# Altium schematic symbol library ThaiEasySymbol_090120_AD2006.SchLib: 32 symbols
Pins are listed as number, name and electrical type; pins without a type are passive.

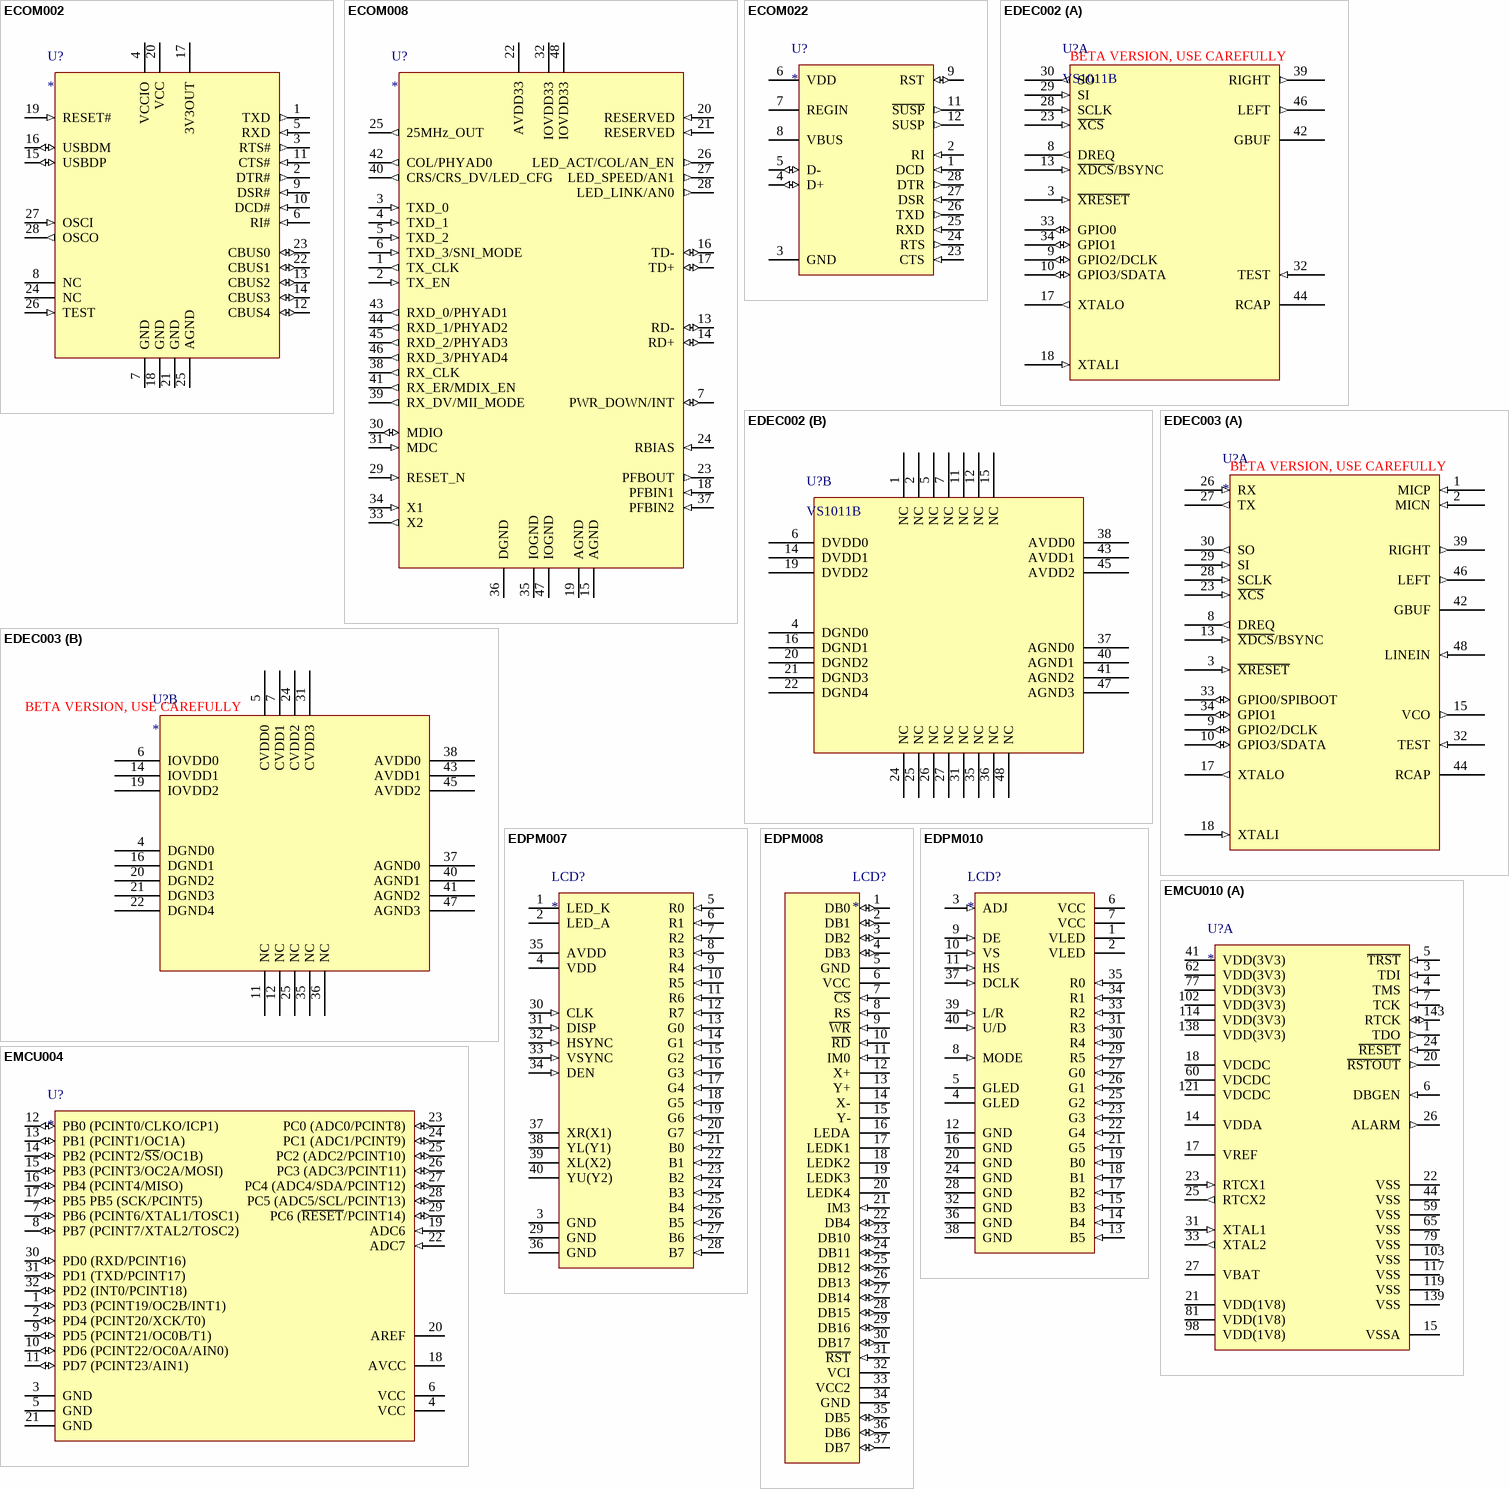
[diagram p0: symbols ECOM002 to EMCU010]

## ECOM002
designator U?
FT232RL -- USB UART IC
pins: 1 TXD (out), 2 DTR# (out), 3 RTS# (out), 4 VCCIO (power), 5 RXD (in), 6 RI# (in), 7 GND (power), 8 NC, 9 DSR# (in), 10 DCD# (in), 11 CTS# (in), 12 CBUS4 (io), 13 CBUS2 (io), 14 CBUS3 (io), 15 USBDP (io), 16 USBDM (io), 17 3V3OUT (power), 18 GND (power), 19 RESET# (in), 20 VCC (power), 21 GND (power), 22 CBUS1 (io), 23 CBUS0 (io), 24 NC, 25 AGND (power), 26 TEST (in), 27 OSCI (in), 28 OSCO (out)

## ECOM008
designator U?
DP83848CVV -- Single Port 10/100 Mb/s Ethernet Physical Layer Transceiver
footprint VBH48A (QFP; 48 Leads; Body 7 x 7 mm; Pitch 0.5 mm)
pins: 1 TX_CLK (out), 2 TX_EN (in), 3 TXD_0 (in), 4 TXD_1 (in), 5 TXD_2 (in), 6 TXD_3/SNI_MODE (in), 7 PWR_DOWN/INT (io), 13 RD- (io), 14 RD+ (io), 15 AGND (power), 16 TD- (io), 17 TD+ (io), 18 PFBIN1 (in), 19 AGND (power), 20 RESERVED (in), 21 RESERVED (in), 22 AVDD33 (power), 23 PFBOUT (out), 24 RBIAS (in), 25 25MHz_OUT (out), 26 LED_ACT/COL/AN_EN (out), 27 LED_SPEED/AN1 (out), 28 LED_LINK/AN0 (out), 29 RESET_N (in), 30 MDIO (io), 31 MDC (in), 32 IOVDD33 (power), 33 X2 (out), 34 X1 (in), 35 IOGND (power), 36 DGND (power), 37 PFBIN2 (in), 38 RX_CLK (out), 39 RX_DV/MII_MODE (out), 40 CRS/CRS_DV/LED_CFG (out), 41 RX_ER/MDIX_EN (out), 42 COL/PHYAD0 (out), 43 RXD_0/PHYAD1 (out), 44 RXD_1/PHYAD2 (out), 45 RXD_2/PHYAD3 (out), 46 RXD_3/PHYAD4 (out), 47 IOGND (power), 48 IOVDD33 (power)

## ECOM022
designator U?
CP2102 -- SINGLE-CHIP USB TO UART BRIDGE
footprint Model Name (Footprint not found)
footprint QFN5X5-28 (Quad Flat No Lead, Plastic; 28 Terminals; Body 5 x 5 mm; Pitch 0.5 mm)
pins: 1 DCD (in), 2 RI (in), 3 GND (power), 4 D+ (io), 5 D- (io), 6 VDD (power), 7 REGIN (power), 8 VBUS (power), 9 RST (io), 11 ~{SUSP} (out), 12 SUSP (out), 23 CTS (in), 24 RTS (out), 25 RXD (in), 26 TXD (out), 27 DSR (in), 28 DTR (out)

## EDEC002
designator U?, comment VS1011B
VS1011B -- IC MP3 AUDIO CODEC LQFP48
part A pins: 3 ~{XRESET} (in), 8 DREQ (out), 9 GPIO2/DCLK (io), 10 GPIO3/SDATA (io), 13 ~{XDCS}/BSYNC (in), 17 XTALO (out), 18 XTALI (in), 23 ~{XCS} (in), 28 SCLK (in), 29 SI (in), 30 SO (out), 32 TEST (in), 33 GPIO0 (io), 34 GPIO1 (io), 39 RIGHT (out), 42 GBUF (power), 44 RCAP, 46 LEFT (out)
part B pins: 1 NC, 2 NC, 4 DGND0 (power), 5 NC, 6 DVDD0 (power), 7 NC, 11 NC, 12 NC, 14 DVDD1 (power), 15 NC, 16 DGND1 (power), 19 DVDD2 (power), 20 DGND2 (power), 21 DGND3 (power), 22 DGND4 (power), 24 NC, 25 NC, 26 NC, 27 NC, 31 NC, 35 NC, 36 NC, 37 AGND0 (power), 38 AVDD0 (power), 40 AGND1 (power), 41 AGND2 (power), 43 AVDD1 (power), 45 AVDD2 (power), 47 AGND3 (power), 48 NC
part A text: BETA VERSION, USE CAREFULLY

## EDEC003
designator U?
VS1003B -- IC MP3/WMA AUDIO CODEC
part A pins: 1 MICP (in), 2 MICN (in), 3 ~{XRESET} (in), 8 DREQ (out), 9 GPIO2/DCLK (io), 10 GPIO3/SDATA (io), 13 ~{XDCS}/BSYNC (in), 15 VCO (out), 17 XTALO (out), 18 XTALI (in), 23 ~{XCS} (in), 26 RX (in), 27 TX (out), 28 SCLK (in), 29 SI (in), 30 SO (out), 32 TEST (in), 33 GPIO0/SPIBOOT (io), 34 GPIO1 (io), 39 RIGHT (out), 42 GBUF (power), 44 RCAP, 46 LEFT (out), 48 LINEIN (in)
part B pins: 4 DGND0 (power), 5 CVDD0 (power), 6 IOVDD0 (power), 7 CVDD1 (power), 11 NC, 12 NC, 14 IOVDD1 (power), 16 DGND1 (power), 19 IOVDD2 (power), 20 DGND2 (power), 21 DGND3 (power), 22 DGND4 (power), 24 CVDD2 (power), 25 NC, 31 CVDD3 (power), 35 NC, 36 NC, 37 AGND0 (power), 38 AVDD0 (power), 40 AGND1 (power), 41 AGND2 (power), 43 AVDD1 (power), 45 AVDD2 (power), 47 AGND3 (power)
part A text: BETA VERSION, USE CAREFULLY
part B text: BETA VERSION, USE CAREFULLY

## EDPM007
designator LCD?
KD43G1-480272-A1 -- 4.3" 24-bit TFT LCD with touch screen
pins: 1 LED_K, 2 LED_A, 3 GND (power), 4 VDD (power), 5 R0 (in), 6 R1 (in), 7 R2 (in), 8 R3 (in), 9 R4 (in), 10 R5 (in), 11 R6 (in), 12 R7 (in), 13 G0 (in), 14 G1 (in), 15 G2 (in), 16 G3 (in), 17 G4 (in), 18 G5 (in), 19 G6 (in), 20 G7 (in), 21 B0 (in), 22 B1 (in), 23 B2 (in), 24 B3 (in), 25 B4 (in), 26 B5 (in), 27 B6 (in), 28 B7 (in), 29 GND (power), 30 CLK (in), 31 DISP (in), 32 HSYNC (in), 33 VSYNC (in), 34 DEN (in), 35 AVDD (power), 36 GND (power), 37 XR(X1), 38 YL(Y1), 39 XL(X2), 40 YU(Y2)

## EDPM008
designator LCD?
ELT240320TP -- 2.8" Touch Screen TFT LCD 240x320 Dots
footprint EDPM008 (ELT240320TP -- 2.8" Touch Screen TFT LCD 240x320 Dots)
pins: 1 DB0 (io), 2 DB1 (io), 3 DB2 (io), 4 DB3 (io), 5 GND (power), 6 VCC (power), 7 ~{CS} (in), 8 RS (in), 9 ~{WR} (in), 10 ~{RD} (in), 11 IM0 (in), 12 X+, 13 Y+, 14 X-, 15 Y-, 16 LEDA, 17 LEDK1, 18 LEDK2, 19 LEDK3, 20 LEDK4, 21 IM3 (in), 22 DB4 (io), 23 DB10 (io), 24 DB11 (io), 25 DB12 (io), 26 DB13 (io), 27 DB14 (io), 28 DB15 (io), 29 DB16 (io), 30 DB17 (io), 31 ~{RST} (in), 32 VCI (power), 33 VCC2 (power), 34 GND (power), 35 DB5 (io), 36 DB6 (io), 37 DB7 (io)

## EDPM010
designator LCD?
ELT800480TP
pins: 1 VLED (power), 2 VLED (power), 3 ADJ (in), 4 GLED (power), 5 GLED (power), 6 VCC (power), 7 VCC (power), 8 MODE (in), 9 DE (in), 10 VS (in), 11 HS (in), 12 GND (power), 13 B5 (in), 14 B4 (in), 15 B3 (in), 16 GND (power), 17 B2 (in), 18 B1 (in), 19 B0 (in), 20 GND (power), 21 G5 (in), 22 G4 (in), 23 G3 (in), 24 GND (power), 25 G2 (in), 26 G1 (in), 27 G0 (in), 28 GND (power), 29 R5 (in), 30 R4 (in), 31 R3 (in), 32 GND (power), 33 R2 (in), 34 R1 (in), 35 R0 (in), 36 GND (power), 37 DCLK (in), 38 GND (power), 39 L/R (in), 40 U/D (in)

## EMCU004
designator U?
ATMEGA88 -- 8-bit Microcontroller with 8K Bytes In-System Programmable Flash
footprint 32A (QFP; 32 Leads; Body 7 x 7 mm; Pitch 0.8 mm)
pins: 1 PD3 (PCINT19/OC2B/INT1) (io), 2 PD4 (PCINT20/XCK/T0) (io), 3 GND (power), 4 VCC (power), 5 GND (power), 6 VCC (power), 7 PB6 (PCINT6/XTAL1/TOSC1) (io), 8 PB7 (PCINT7/XTAL2/TOSC2) (io), 9 PD5 (PCINT21/OC0B/T1) (io), 10 PD6 (PCINT22/OC0A/AIN0) (io), 11 PD7 (PCINT23/AIN1) (io), 12 PB0 (PCINT0/CLKO/ICP1) (io), 13 PB1 (PCINT1/OC1A) (io), 14 PB2 (PCINT2/~{SS}/OC1B) (io), 15 PB3 (PCINT3/OC2A/MOSI) (io), 16 PB4 (PCINT4/MISO) (io), 17 PB5 PB5 (SCK/PCINT5) (io), 18 AVCC (power), 19 ADC6 (in), 20 AREF (power), 21 GND (power), 22 ADC7 (in), 23 PC0 (ADC0/PCINT8) (io), 24 PC1 (ADC1/PCINT9) (io), 25 PC2 (ADC2/PCINT10) (io), 26 PC3 (ADC3/PCINT11) (io), 27 PC4 (ADC4/SDA/PCINT12) (io), 28 PC5 (ADC5/SCL/PCINT13) (io), 29 PC6 (~{RESET}/PCINT14) (io), 30 PD0 (RXD/PCINT16) (io), 31 PD1 (TXD/PCINT17) (io), 32 PD2 (INT0/PCINT18) (io)

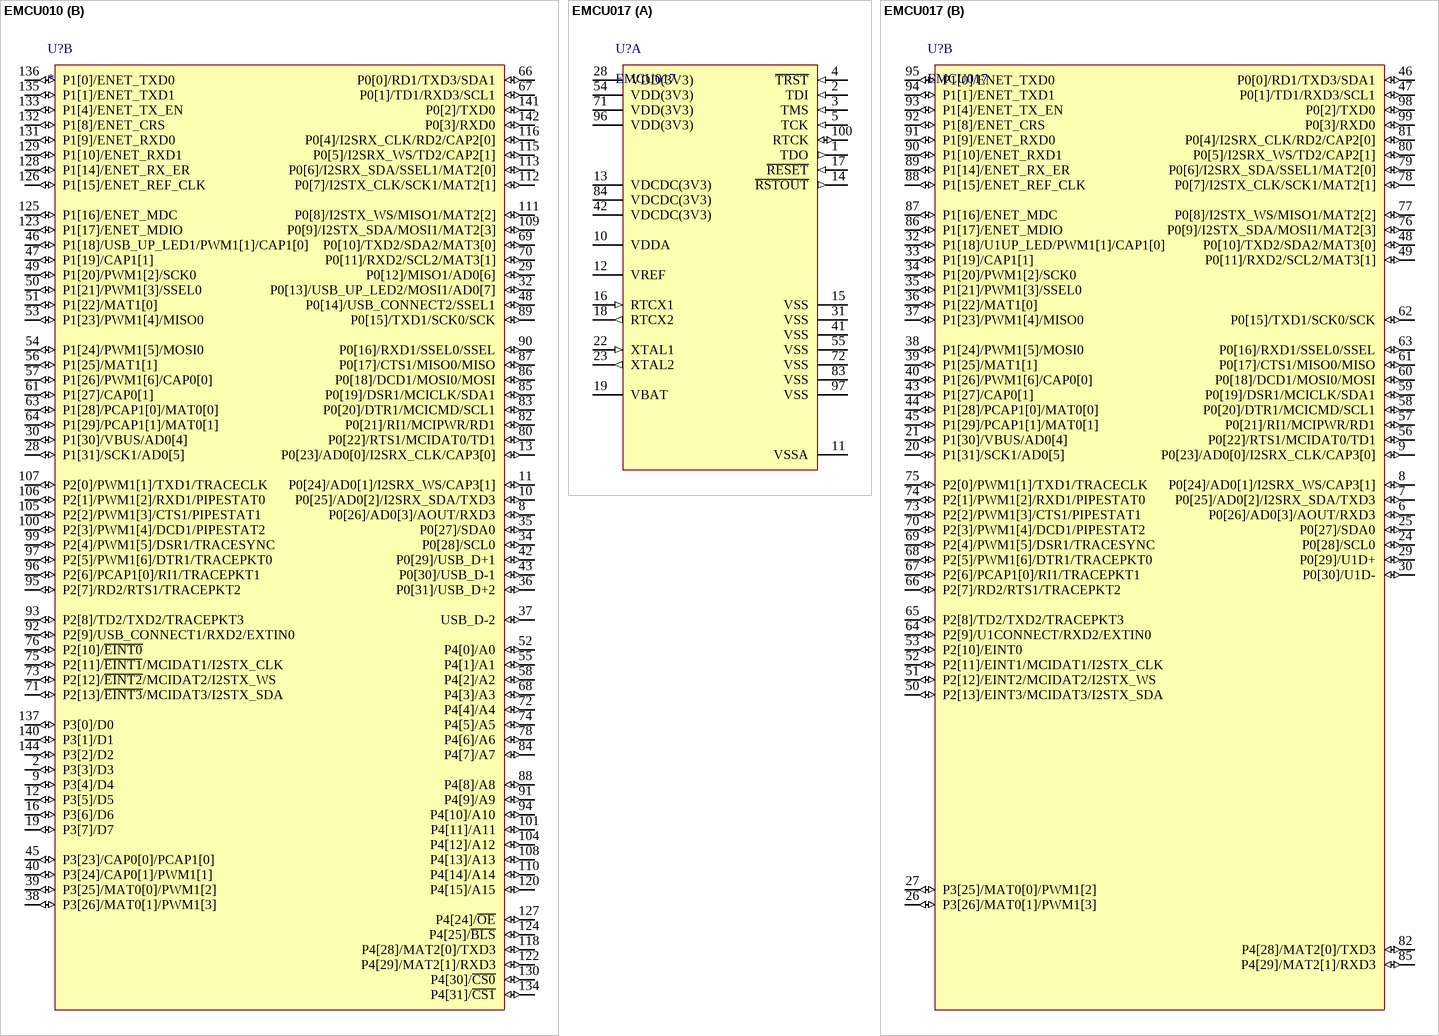
[diagram p1: symbols EMCU010 to EMCU017]

## EMCU010
designator U?
LPC2378FBD144 -- Single-chip 16-bit/32-bit microcontrollers; 512 kB flash with  ISP/IAP, Ethernet, USB 2.0, CAN, and 10-bit ADC/DAC
footprint 144L1 (QFP; 144 Leads; Body 20 x 20 mm; Pitch 0.5 mm)
part A pins: 1 TDO (out), 3 TDI (in), 4 TMS (in), 5 ~{TRST} (in), 6 DBGEN (in), 7 TCK (in), 14 VDDA (power), 15 VSSA (power), 17 VREF (power), 18 VDCDC (power), 20 ~{RSTOUT} (out), 21 VDD(1V8) (power), 22 VSS (power), 23 RTCX1 (in), 24 ~{RESET} (in), 25 RTCX2 (out), 26 ALARM (out), 27 VBAT (power), 31 XTAL1 (in), 33 XTAL2 (out), 41 VDD(3V3) (power), 44 VSS (power), 59 VSS (power), 60 VDCDC (power), 62 VDD(3V3) (power), 65 VSS (power), 77 VDD(3V3) (power), 79 VSS (power), 81 VDD(1V8) (power), 98 VDD(1V8) (power), 102 VDD(3V3) (power), 103 VSS (power), 114 VDD(3V3) (power), 117 VSS (power), 119 VSS (power), 121 VDCDC (power), 138 VDD(3V3) (power), 139 VSS (power), 143 RTCK (io)
part B pins: 2 P3[3]/D3 (io), 8 P0[26]/AD0[3]/AOUT/RXD3 (io), 9 P3[4]/D4 (io), 10 P0[25]/AD0[2]/I2SRX_SDA/TXD3 (io), 11 P0[24]/AD0[1]/I2SRX_WS/CAP3[1] (io), 12 P3[5]/D5 (io), 13 P0[23]/AD0[0]/I2SRX_CLK/CAP3[0] (io), 16 P3[6]/D6 (io), 19 P3[7]/D7 (io), 28 P1[31]/SCK1/AD0[5] (io), 29 P0[12]/MISO1/AD0[6] (io), 30 P1[30]/VBUS/AD0[4] (io), 32 P0[13]/USB_UP_LED2/MOSI1/AD0[7] (io), 34 P0[28]/SCL0 (io), 35 P0[27]/SDA0 (io), 36 P0[31]/USB_D+2 (io), 37 USB_D-2 (io), 38 P3[26]/MAT0[1]/PWM1[3] (io), 39 P3[25]/MAT0[0]/PWM1[2] (io), 40 P3[24]/CAP0[1]/PWM1[1] (io), 42 P0[29]/USB_D+1 (io), 43 P0[30]/USB_D-1 (io), 45 P3[23]/CAP0[0]/PCAP1[0] (io), 46 P1[18]/USB_UP_LED1/PWM1[1]/CAP1[0] (io), 47 P1[19]/CAP1[1] (io), 48 P0[14]/USB_CONNECT2/SSEL1 (io), 49 P1[20]/PWM1[2]/SCK0 (io), 50 P1[21]/PWM1[3]/SSEL0 (io), 51 P1[22]/MAT1[0] (io), 52 P4[0]/A0 (io), 53 P1[23]/PWM1[4]/MISO0 (io), 54 P1[24]/PWM1[5]/MOSI0 (io), 55 P4[1]/A1 (io), 56 P1[25]/MAT1[1] (io), 57 P1[26]/PWM1[6]/CAP0[0] (io), 58 P4[2]/A2 (io), 61 P1[27]/CAP0[1] (io), 63 P1[28]/PCAP1[0]/MAT0[0] (io), 64 P1[29]/PCAP1[1]/MAT0[1] (io), 66 P0[0]/RD1/TXD3/SDA1 (io), 67 P0[1]/TD1/RXD3/SCL1 (io), 68 P4[3]/A3 (io), 69 P0[10]/TXD2/SDA2/MAT3[0] (io), 70 P0[11]/RXD2/SCL2/MAT3[1] (io), 71 P2[13]/~{EINT3}/MCIDAT3/I2STX_SDA (io), 72 P4[4]/A4 (io), 73 P2[12]/~{EINT2}/MCIDAT2/I2STX_WS (io), 74 P4[5]/A5 (io), 75 P2[11]/~{EINT1}/MCIDAT1/I2STX_CLK (io), 76 P2[10]/~{EINT0} (io), 78 P4[6]/A6 (io), 80 P0[22]/RTS1/MCIDAT0/TD1 (io), 82 P0[21]/RI1/MCIPWR/RD1 (io), 83 P0[20]/DTR1/MCICMD/SCL1 (io), 84 P4[7]/A7 (io), 85 P0[19]/DSR1/MCICLK/SDA1 (io), 86 P0[18]/DCD1/MOSI0/MOSI (io), 87 P0[17]/CTS1/MISO0/MISO (io), 88 P4[8]/A8 (io), 89 P0[15]/TXD1/SCK0/SCK (io), 90 P0[16]/RXD1/SSEL0/SSEL (io), 91 P4[9]/A9 (io), 92 P2[9]/USB_CONNECT1/RXD2/EXTIN0 (io), 93 P2[8]/TD2/TXD2/TRACEPKT3 (io), 94 P4[10]/A10 (io), 95 P2[7]/RD2/RTS1/TRACEPKT2 (io), 96 P2[6]/PCAP1[0]/RI1/TRACEPKT1 (io), 97 P2[5]/PWM1[6]/DTR1/TRACEPKT0 (io), 99 P2[4]/PWM1[5]/DSR1/TRACESYNC (io), 100 P2[3]/PWM1[4]/DCD1/PIPESTAT2 (io), 101 P4[11]/A11 (io), 104 P4[12]/A12 (io), 105 P2[2]/PWM1[3]/CTS1/PIPESTAT1 (io), 106 P2[1]/PWM1[2]/RXD1/PIPESTAT0 (io), 107 P2[0]/PWM1[1]/TXD1/TRACECLK (io), 108 P4[13]/A13 (io), 109 P0[9]/I2STX_SDA/MOSI1/MAT2[3] (io), 110 P4[14]/A14 (io), 111 P0[8]/I2STX_WS/MISO1/MAT2[2] (io), 112 P0[7]/I2STX_CLK/SCK1/MAT2[1] (io), 113 P0[6]/I2SRX_SDA/SSEL1/MAT2[0] (io), 115 P0[5]/I2SRX_WS/TD2/CAP2[1] (io), 116 P0[4]/I2SRX_CLK/RD2/CAP2[0] (io), 118 P4[28]/MAT2[0]/TXD3 (io), 120 P4[15]/A15 (io), 122 P4[29]/MAT2[1]/RXD3 (io), 123 P1[17]/ENET_MDIO (io), 124 P4[25]/~{BLS} (io), 125 P1[16]/ENET_MDC (io), 126 P1[15]/ENET_REF_CLK (io), 127 P4[24]/~{OE} (io), 128 P1[14]/ENET_RX_ER (io), 129 P1[10]/ENET_RXD1 (io), 130 P4[30]/~{CS0} (io), 131 P1[9]/ENET_RXD0 (io), 132 P1[8]/ENET_CRS (io), 133 P1[4]/ENET_TX_EN (io), 134 P4[31]/~{CS1} (io), 135 P1[1]/ENET_TXD1 (io), 136 P1[0]/ENET_TXD0 (io), 137 P3[0]/D0 (io), 140 P3[1]/D1 (io), 141 P0[2]/TXD0 (io), 142 P0[3]/RXD0 (io), 144 P3[2]/D2 (io)

## EMCU017
designator U?
LPC2368FBD100 -- Single-chip 16-bit/32-bit microcontrollers; up to 512 kB flash  with ISP/IAP, Ethernet, USB 2.0, CAN, and 10-bit ADC/DAC
footprint 100T1 (QFP; 100 Leads; Body 14 x 14 mm; Pitch 0.5 mm)
part A pins: 1 TDO (out), 2 TDI (in), 3 TMS (in), 4 ~{TRST} (in), 5 TCK (in), 10 VDDA (power), 11 VSSA (power), 12 VREF (power), 13 VDCDC(3V3) (power), 14 ~{RSTOUT} (out), 15 VSS (power), 16 RTCX1 (in), 17 ~{RESET} (in), 18 RTCX2 (out), 19 VBAT (power), 22 XTAL1 (in), 23 XTAL2 (out), 28 VDD(3V3) (power), 31 VSS (power), 41 VSS (power), 42 VDCDC(3V3) (power), 54 VDD(3V3) (power), 55 VSS (power), 71 VDD(3V3) (power), 72 VSS (power), 83 VSS (power), 84 VDCDC(3V3) (power), 96 VDD(3V3) (power), 97 VSS (power), 100 RTCK (io)
part B pins: 6 P0[26]/AD0[3]/AOUT/RXD3 (io), 7 P0[25]/AD0[2]/I2SRX_SDA/TXD3 (io), 8 P0[24]/AD0[1]/I2SRX_WS/CAP3[1] (io), 9 P0[23]/AD0[0]/I2SRX_CLK/CAP3[0] (io), 20 P1[31]/SCK1/AD0[5] (io), 21 P1[30]/VBUS/AD0[4] (io), 24 P0[28]/SCL0 (io), 25 P0[27]/SDA0 (io), 26 P3[26]/MAT0[1]/PWM1[3] (io), 27 P3[25]/MAT0[0]/PWM1[2] (io), 29 P0[29]/U1D+ (io), 30 P0[30]/U1D- (io), 32 P1[18]/U1UP_LED/PWM1[1]/CAP1[0] (io), 33 P1[19]/CAP1[1] (io), 34 P1[20]/PWM1[2]/SCK0 (io), 35 P1[21]/PWM1[3]/SSEL0 (io), 36 P1[22]/MAT1[0] (io), 37 P1[23]/PWM1[4]/MISO0 (io), 38 P1[24]/PWM1[5]/MOSI0 (io), 39 P1[25]/MAT1[1] (io), 40 P1[26]/PWM1[6]/CAP0[0] (io), 43 P1[27]/CAP0[1] (io), 44 P1[28]/PCAP1[0]/MAT0[0] (io), 45 P1[29]/PCAP1[1]/MAT0[1] (io), 46 P0[0]/RD1/TXD3/SDA1 (io), 47 P0[1]/TD1/RXD3/SCL1 (io), 48 P0[10]/TXD2/SDA2/MAT3[0] (io), 49 P0[11]/RXD2/SCL2/MAT3[1] (io), 50 P2[13]/EINT3/MCIDAT3/I2STX_SDA (io), 51 P2[12]/EINT2/MCIDAT2/I2STX_WS (io), 52 P2[11]/EINT1/MCIDAT1/I2STX_CLK (io), 53 P2[10]/EINT0 (io), 56 P0[22]/RTS1/MCIDAT0/TD1 (io), 57 P0[21]/RI1/MCIPWR/RD1 (io), 58 P0[20]/DTR1/MCICMD/SCL1 (io), 59 P0[19]/DSR1/MCICLK/SDA1 (io), 60 P0[18]/DCD1/MOSI0/MOSI (io), 61 P0[17]/CTS1/MISO0/MISO (io), 62 P0[15]/TXD1/SCK0/SCK (io), 63 P0[16]/RXD1/SSEL0/SSEL (io), 64 P2[9]/U1CONNECT/RXD2/EXTIN0 (io), 65 P2[8]/TD2/TXD2/TRACEPKT3 (io), 66 P2[7]/RD2/RTS1/TRACEPKT2 (io), 67 P2[6]/PCAP1[0]/RI1/TRACEPKT1 (io), 68 P2[5]/PWM1[6]/DTR1/TRACEPKT0 (io), 69 P2[4]/PWM1[5]/DSR1/TRACESYNC (io), 70 P2[3]/PWM1[4]/DCD1/PIPESTAT2 (io), 73 P2[2]/PWM1[3]/CTS1/PIPESTAT1 (io), 74 P2[1]/PWM1[2]/RXD1/PIPESTAT0 (io), 75 P2[0]/PWM1[1]/TXD1/TRACECLK (io), 76 P0[9]/I2STX_SDA/MOSI1/MAT2[3] (io), 77 P0[8]/I2STX_WS/MISO1/MAT2[2] (io), 78 P0[7]/I2STX_CLK/SCK1/MAT2[1] (io), 79 P0[6]/I2SRX_SDA/SSEL1/MAT2[0] (io), 80 P0[5]/I2SRX_WS/TD2/CAP2[1] (io), 81 P0[4]/I2SRX_CLK/RD2/CAP2[0] (io), 82 P4[28]/MAT2[0]/TXD3 (io), 85 P4[29]/MAT2[1]/RXD3 (io), 86 P1[17]/ENET_MDIO (io), 87 P1[16]/ENET_MDC (io), 88 P1[15]/ENET_REF_CLK (io), 89 P1[14]/ENET_RX_ER (io), 90 P1[10]/ENET_RXD1 (io), 91 P1[9]/ENET_RXD0 (io), 92 P1[8]/ENET_CRS (io), 93 P1[4]/ENET_TX_EN (io), 94 P1[1]/ENET_TXD1 (io), 95 P1[0]/ENET_TXD0 (io), 98 P0[2]/TXD0 (io), 99 P0[3]/RXD0 (io)

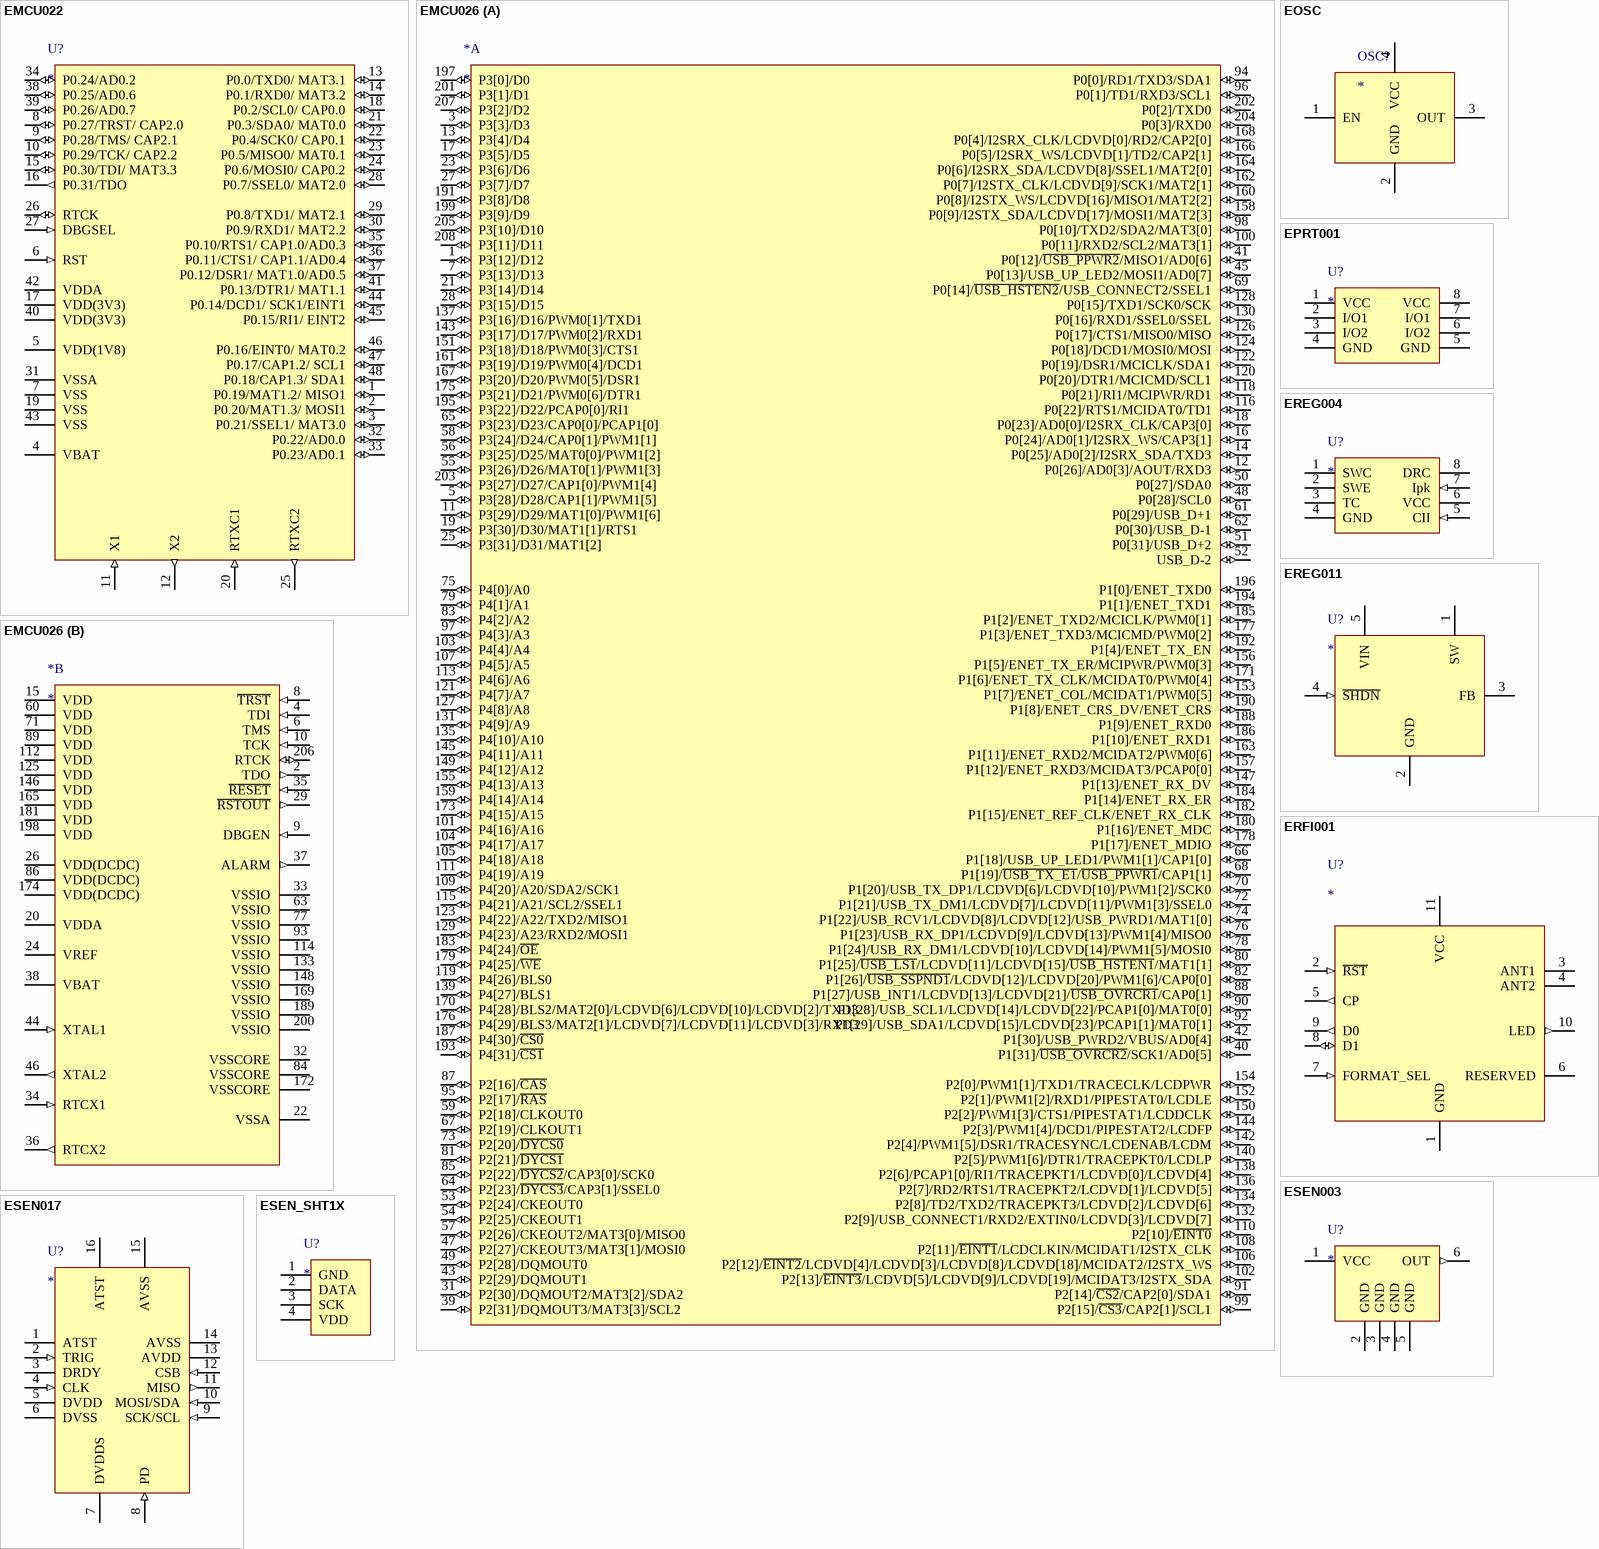
[diagram p2: symbols EMCU022 to ESEN_SHT1X]

## EMCU022
designator U?
LPC2103FBD48 -- Single-chip 16-bit/32-bit microcontrollers; 8 kB/16 kB/32 kB  flash with ISP/IAP, fast ports and 10-bit ADC
pins: 1 P0.19/MAT1.2/ MISO1 (io), 2 P0.20/MAT1.3/ MOSI1 (io), 3 P0.21/SSEL1/ MAT3.0 (io), 4 VBAT (power), 5 VDD(1V8) (power), 6 RST (in), 7 VSS (power), 8 P0.27/TRST/ CAP2.0 (io), 9 P0.28/TMS/ CAP2.1 (io), 10 P0.29/TCK/ CAP2.2 (io), 11 X1 (in), 12 X2 (out), 13 P0.0/TXD0/ MAT3.1 (io), 14 P0.1/RXD0/ MAT3.2 (io), 15 P0.30/TDI/ MAT3.3 (io), 16 P0.31/TDO (out), 17 VDD(3V3) (power), 18 P0.2/SCL0/ CAP0.0 (io), 19 VSS (power), 20 RTXC1 (in), 21 P0.3/SDA0/ MAT0.0 (io), 22 P0.4/SCK0/ CAP0.1 (io), 23 P0.5/MISO0/ MAT0.1 (io), 24 P0.6/MOSI0/ CAP0.2 (io), 25 RTXC2 (out), 26 RTCK (io), 27 DBGSEL (in), 28 P0.7/SSEL0/ MAT2.0 (io), 29 P0.8/TXD1/ MAT2.1 (io), 30 P0.9/RXD1/ MAT2.2 (io), 31 VSSA (power), 32 P0.22/AD0.0 (io), 33 P0.23/AD0.1 (io), 34 P0.24/AD0.2 (io), 35 P0.10/RTS1/ CAP1.0/AD0.3 (io), 36 P0.11/CTS1/ CAP1.1/AD0.4 (io), 37 P0.12/DSR1/ MAT1.0/AD0.5 (io), 38 P0.25/AD0.6 (io), 39 P0.26/AD0.7 (io), 40 VDD(3V3) (power), 41 P0.13/DTR1/ MAT1.1 (io), 42 VDDA (power), 43 VSS (power), 44 P0.14/DCD1/ SCK1/EINT1 (io), 45 P0.15/RI1/ EINT2 (io), 46 P0.16/EINT0/ MAT0.2 (io), 47 P0.17/CAP1.2/ SCL1 (io), 48 P0.18/CAP1.3/ SDA1 (io)

## EMCU026
designator *
LPC2478FBD208 -- Single-chip 16-bit/32-bit micro; 512 kB flash, Ethernet, CAN,  LCD, USB 2.0 device/host/OTG, external memory interface
part A pins: 1 P3[12]/D12 (io), 3 P3[3]/D3 (io), 5 P3[28]/D28/CAP1[1]/PWM1[5] (io), 7 P3[13]/D13 (io), 11 P3[29]/D29/MAT1[0]/PWM1[6] (io), 12 P0[26]/AD0[3]/AOUT/RXD3 (io), 13 P3[4]/D4 (io), 14 P0[25]/AD0[2]/I2SRX_SDA/TXD3 (io), 16 P0[24]/AD0[1]/I2SRX_WS/CAP3[1] (io), 17 P3[5]/D5 (io), 18 P0[23]/AD0[0]/I2SRX_CLK/CAP3[0] (io), 19 P3[30]/D30/MAT1[1]/RTS1 (io), 21 P3[14]/D14 (io), 23 P3[6]/D6 (io), 25 P3[31]/D31/MAT1[2] (io), 27 P3[7]/D7 (io), 28 P3[15]/D15 (io), 31 P2[30]/DQMOUT2/MAT3[2]/SDA2 (io), 39 P2[31]/DQMOUT3/MAT3[3]/SCL2 (io), 40 P1[31]/~{USB_OVRCR2}/SCK1/AD0[5] (io), 41 P0[12]/~{USB_PPWR2}/MISO1/AD0[6] (io), 42 P1[30]/USB_PWRD2/VBUS/AD0[4] (io), 43 P2[29]/DQMOUT1 (io), 45 P0[13]/USB_UP_LED2/MOSI1/AD0[7] (io), 47 P2[27]/CKEOUT3/MAT3[1]/MOSI0 (io), 48 P0[28]/SCL0 (io), 49 P2[28]/DQMOUT0 (io), 50 P0[27]/SDA0 (io), 51 P0[31]/USB_D+2 (io), 52 USB_D-2 (io), 53 P2[24]/CKEOUT0 (io), 54 P2[25]/CKEOUT1 (io), 55 P3[26]/D26/MAT0[1]/PWM1[3] (io), 56 P3[25]/D25/MAT0[0]/PWM1[2] (io), 57 P2[26]/CKEOUT2/MAT3[0]/MISO0 (io), 58 P3[24]/D24/CAP0[1]/PWM1[1] (io), 59 P2[18]/CLKOUT0 (io), 61 P0[29]/USB_D+1 (io), 62 P0[30]/USB_D-1 (io), 64 P2[23]/~{DYCS3}/CAP3[1]/SSEL0 (io), 65 P3[23]/D23/CAP0[0]/PCAP1[0] (io), 66 P1[18]/USB_UP_LED1/PWM1[1]/CAP1[0] (io), 67 P2[19]/CLKOUT1 (io), 68 P1[19]/~{USB_TX_E1}/~{USB_PPWR1}/CAP1[1] (io), 69 P0[14]/~{USB_HSTEN2}/USB_CONNECT2/SSEL1 (io), 70 P1[20]/USB_TX_DP1/LCDVD[6]/LCDVD[10]/PWM1[2]/SCK0 (io), 72 P1[21]/USB_TX_DM1/LCDVD[7]/LCDVD[11]/PWM1[3]/SSEL0 (io), 73 P2[20]/~{DYCS0} (io), 74 P1[22]/USB_RCV1/LCDVD[8]/LCDVD[12]/USB_PWRD1/MAT1[0] (io), 75 P4[0]/A0 (io), 76 P1[23]/USB_RX_DP1/LCDVD[9]/LCDVD[13]/PWM1[4]/MISO0 (io), 78 P1[24]/USB_RX_DM1/LCDVD[10]/LCDVD[14]/PWM1[5]/MOSI0 (io), 79 P4[1]/A1 (io), 80 P1[25]/~{USB_LS1}/LCDVD[11]/LCDVD[15]/~{USB_HSTEN1}/MAT1[1] (io), 81 P2[21]/~{DYCS1} (io), 82 P1[26]/~{USB_SSPND1}/LCDVD[12]/LCDVD[20]/PWM1[6]/CAP0[0] (io), 83 P4[2]/A2 (io), 85 P2[22]/~{DYCS2}/CAP3[0]/SCK0 (io), 87 P2[16]/~{CAS} (io), 88 P1[27]/USB_INT1/LCDVD[13]/LCDVD[21]/~{USB_OVRCR1}/CAP0[1] (io), 90 P1[28]/USB_SCL1/LCDVD[14]/LCDVD[22]/PCAP1[0]/MAT0[0] (io), 91 P2[14]/~{CS2}/CAP2[0]/SDA1 (io), 92 P1[29]/USB_SDA1/LCDVD[15]/LCDVD[23]/PCAP1[1]/MAT0[1] (io), 94 P0[0]/RD1/TXD3/SDA1 (io), 95 P2[17]/~{RAS} (io), 96 P0[1]/TD1/RXD3/SCL1 (io), 97 P4[3]/A3 (io), 98 P0[10]/TXD2/SDA2/MAT3[0] (io), 99 P2[15]/~{CS3}/CAP2[1]/SCL1 (io), 100 P0[11]/RXD2/SCL2/MAT3[1] (io), 101 P4[16]/A16 (io), 102 P2[13]/~{EINT3}/LCDVD[5]/LCDVD[9]/LCDVD[19]/MCIDAT3/I2STX_SDA (io), 103 P4[4]/A4 (io), 104 P4[17]/A17 (io), 105 P4[18]/A18 (io), 106 P2[12]/~{EINT2}/LCDVD[4]/LCDVD[3]/LCDVD[8]/LCDVD[18]/MCIDAT2/I2STX_WS (io), 107 P4[5]/A5 (io), 108 P2[11]/~{EINT1}/LCDCLKIN/MCIDAT1/I2STX_CLK (io), 109 P4[20]/A20/SDA2/SCK1 (io), 110 P2[10]/~{EINT0} (io), 111 P4[19]/A19 (io), 113 P4[6]/A6 (io), 115 P4[21]/A21/SCL2/SSEL1 (io), 116 P0[22]/RTS1/MCIDAT0/TD1 (io), 118 P0[21]/RI1/MCIPWR/RD1 (io), 119 P4[26]/BLS0 (io), 120 P0[20]/DTR1/MCICMD/SCL1 (io), 121 P4[7]/A7 (io), 122 P0[19]/DSR1/MCICLK/SDA1 (io), 123 P4[22]/A22/TXD2/MISO1 (io), 124 P0[18]/DCD1/MOSI0/MOSI (io), 126 P0[17]/CTS1/MISO0/MISO (io), 127 P4[8]/A8 (io), 128 P0[15]/TXD1/SCK0/SCK (io), 129 P4[23]/A23/RXD2/MOSI1 (io), 130 P0[16]/RXD1/SSEL0/SSEL (io), 131 P4[9]/A9 (io), 132 P2[9]/USB_CONNECT1/RXD2/EXTIN0/LCDVD[3]/LCDVD[7] (io), 134 P2[8]/TD2/TXD2/TRACEPKT3/LCDVD[2]/LCDVD[6] (io), 135 P4[10]/A10 (io), 136 P2[7]/RD2/RTS1/TRACEPKT2/LCDVD[1]/LCDVD[5] (io), 137 P3[16]/D16/PWM0[1]/TXD1 (io), 138 P2[6]/PCAP1[0]/RI1/TRACEPKT1/LCDVD[0]/LCDVD[4] (io), 139 P4[27]/BLS1 (io), 140 P2[5]/PWM1[6]/DTR1/TRACEPKT0/LCDLP (io), 142 P2[4]/PWM1[5]/DSR1/TRACESYNC/LCDENAB/LCDM (io), 143 P3[17]/D17/PWM0[2]/RXD1 (io), 144 P2[3]/PWM1[4]/DCD1/PIPESTAT2/LCDFP (io), 145 P4[11]/A11 (io), 147 P1[13]/ENET_RX_DV (io), 149 P4[12]/A12 (io), 150 P2[2]/PWM1[3]/CTS1/PIPESTAT1/LCDDCLK (io), 151 P3[18]/D18/PWM0[3]/CTS1 (io), 152 P2[1]/PWM1[2]/RXD1/PIPESTAT0/LCDLE (io), 153 P1[7]/ENET_COL/MCIDAT1/PWM0[5] (io), 154 P2[0]/PWM1[1]/TXD1/TRACECLK/LCDPWR (io), 155 P4[13]/A13 (io), 156 P1[5]/ENET_TX_ER/MCIPWR/PWM0[3] (io), 157 P1[12]/ENET_RXD3/MCIDAT3/PCAP0[0] (io), 158 P0[9]/I2STX_SDA/LCDVD[17]/MOSI1/MAT2[3] (io), 159 P4[14]/A14 (io), 160 P0[8]/I2STX_WS/LCDVD[16]/MISO1/MAT2[2] (io), 161 P3[19]/D19/PWM0[4]/DCD1 (io), 162 P0[7]/I2STX_CLK/LCDVD[9]/SCK1/MAT2[1] (io), 163 P1[11]/ENET_RXD2/MCIDAT2/PWM0[6] (io), 164 P0[6]/I2SRX_SDA/LCDVD[8]/SSEL1/MAT2[0] (io), 166 P0[5]/I2SRX_WS/LCDVD[1]/TD2/CAP2[1] (io), 167 P3[20]/D20/PWM0[5]/DSR1 (io), 168 P0[4]/I2SRX_CLK/LCDVD[0]/RD2/CAP2[0] (io), 170 P4[28]/BLS2/MAT2[0]/LCDVD[6]/LCDVD[10]/LCDVD[2]/TXD3 (io), 171 P1[6]/ENET_TX_CLK/MCIDAT0/PWM0[4] (io), 173 P4[15]/A15 (io), 175 P3[21]/D21/PWM0[6]/DTR1 (io), 176 P4[29]/BLS3/MAT2[1]/LCDVD[7]/LCDVD[11]/LCDVD[3]/RXD3 (io), 177 P1[3]/ENET_TXD3/MCICMD/PWM0[2] (io), 178 P1[17]/ENET_MDIO (io), 179 P4[25]/~{WE} (io), 180 P1[16]/ENET_MDC (io), 182 P1[15]/ENET_REF_CLK/ENET_RX_CLK (io), 183 P4[24]/~{OE} (io), 184 P1[14]/ENET_RX_ER (io), 185 P1[2]/ENET_TXD2/MCICLK/PWM0[1] (io), 186 P1[10]/ENET_RXD1 (io), 187 P4[30]/~{CS0} (io), 188 P1[9]/ENET_RXD0 (io), 190 P1[8]/ENET_CRS_DV/ENET_CRS (io), 191 P3[8]/D8 (io), 192 P1[4]/ENET_TX_EN (io), 193 P4[31]/~{CS1} (io), 194 P1[1]/ENET_TXD1 (io), 195 P3[22]/D22/PCAP0[0]/RI1 (io), 196 P1[0]/ENET_TXD0 (io), 197 P3[0]/D0 (io), 199 P3[9]/D9 (io), 201 P3[1]/D1 (io), 202 P0[2]/TXD0 (io), 203 P3[27]/D27/CAP1[0]/PWM1[4] (io), 204 P0[3]/RXD0 (io), 205 P3[10]/D10 (io), 207 P3[2]/D2 (io), 208 P3[11]/D11 (io)
part B pins: 2 TDO (out), 4 TDI (in), 6 TMS (in), 8 ~{TRST} (in), 9 DBGEN (in), 10 TCK (in), 15 VDD (power), 20 VDDA (power), 22 VSSA (power), 24 VREF (power), 26 VDD(DCDC) (power), 29 ~{RSTOUT} (out), 30 NC hidden, 32 VSSCORE (power), 33 VSSIO (power), 34 RTCX1 (in), 35 ~{RESET} (in), 36 RTCX2 (out), 37 ALARM (out), 38 VBAT (power), 44 XTAL1 (in), 46 XTAL2 (out), 60 VDD (power), 63 VSSIO (power), 71 VDD (power), 77 VSSIO (power), 84 VSSCORE (power), 86 VDD(DCDC) (power), 89 VDD (power), 93 VSSIO (power), 112 VDD (power), 114 VSSIO (power), 117 NC hidden, 125 VDD (power), 133 VSSIO (power), 141 NC hidden, 146 VDD (power), 148 VSSIO (power), 165 VDD (power), 169 VSSIO (power), 172 VSSCORE (power), 174 VDD(DCDC) (power), 181 VDD (power), 189 VSSIO (power), 198 VDD (power), 200 VSSIO (power), 206 RTCK (io)

## EOSC
designator OSC?
OSCILLATOR
footprint EOSC_7.5X5
pins: 1 EN, 2 GND, 3 OUT, 4 VCC

## EPRT001
designator U?
USB6B1 -- DATA LINE PROTECTION
pins: 1 VCC (power), 2 I/O1, 3 I/O2, 4 GND (power), 5 GND (power), 6 I/O2, 7 I/O1, 8 VCC (power)

## EREG004
designator U?
MC34063 -- DC-DC CONVERTER CONTROL CIRCUITS
footprint SO8 (Small Outline; 8 Leads; Body Width 3.9 mm; Pitch 1.27 mm)
pins: 1 SWC, 2 SWE, 3 TC, 4 GND (power), 5 CII (in), 6 VCC (power), 7 Ipk (in), 8 DRC

## EREG011
designator U?
LM2705 -- MICROPOWER STEP-UP DC/DC CONVERTER WITH 150MA PEAK CURRENT LIMIT
pins: 1 SW (power), 2 GND (power), 3 FB, 4 ~{SHDN} (in), 5 VIN (power)

## ERFI001
designator U?
ID-12 -- 12-CM-RANGE RFID MODULE W/INTERNAL ANTENNA
pins: 1 GND (power), 2 ~{RST} (in), 3 ANT1, 4 ANT2, 5 CP (out), 6 RESERVED, 7 FORMAT_SEL (in), 8 D1 (io), 9 D0 (out), 10 LED (out), 11 VCC (power)

## ESEN003
designator U?
TPS852 -- Photo IC
footprint ESEN003 (TPS852 -- Photo IC)
pins: 1 VCC (power), 2 GND (power), 3 GND (power), 4 GND (power), 5 GND (power), 6 OUT (out)

## ESEN017
designator U?
SCP1000 -- Absolute pressure sensor
footprint ESEN047 (SCP1000 -- Absolute pressure sensor)
pins: 1 ATST (power), 2 TRIG (in), 3 DRDY, 4 CLK (in), 5 DVDD (power), 6 DVSS (power), 7 DVDDS (power), 8 PD (in), 9 SCK/SCL (in), 10 MOSI/SDA (in), 11 MISO (out), 12 CSB (in), 13 AVDD (power), 14 AVSS (power), 15 AVSS (power), 16 ATST (power)

## ESEN_SHT1X
designator U?
Humidity & Temperature Sensor
footprint ESEN_SHT1X
pins: 1 GND, 2 DATA, 3 SCK, 4 VDD

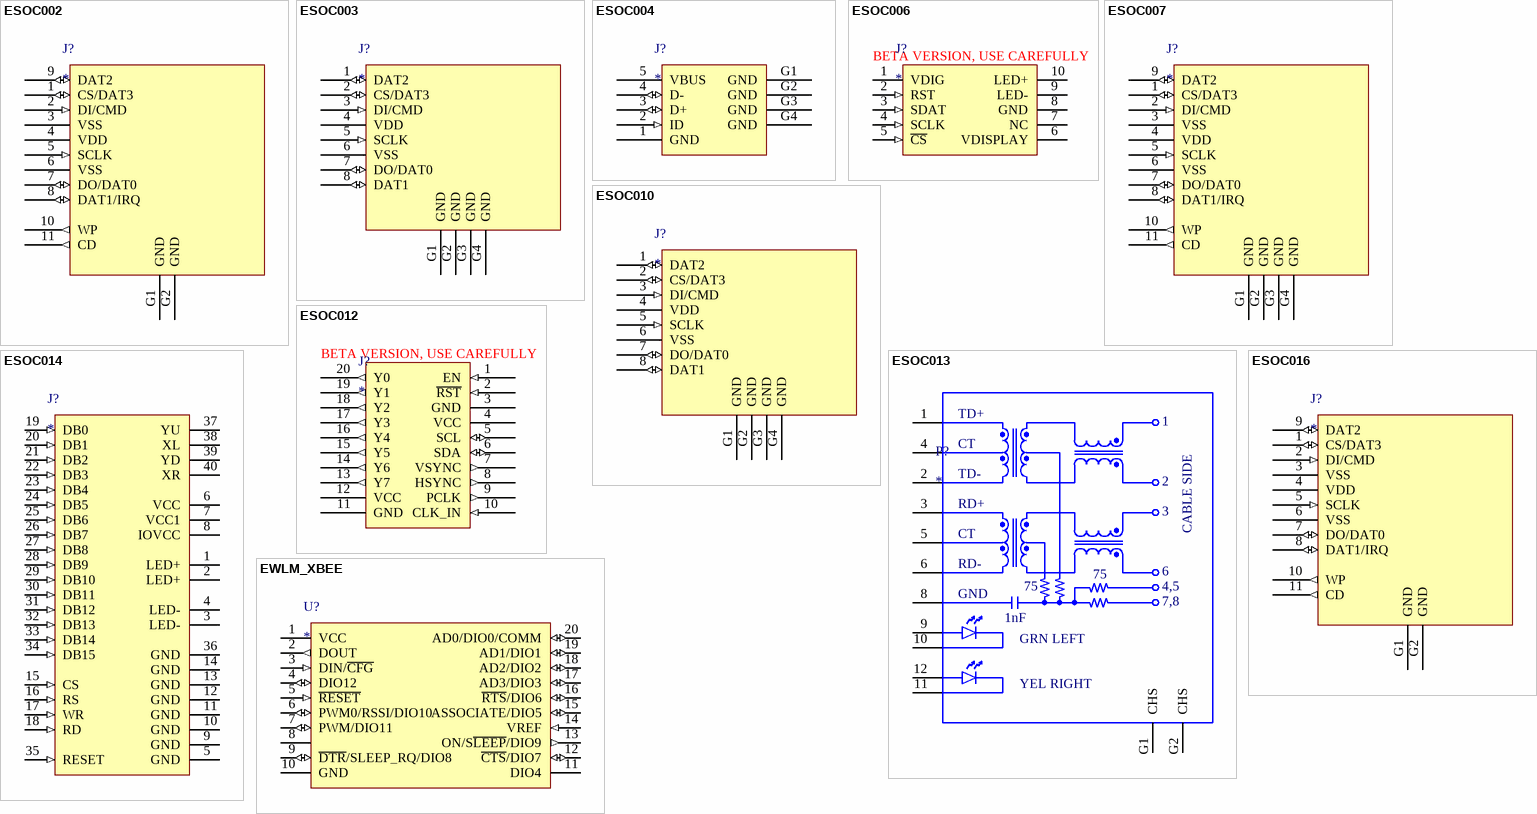
[diagram p3: symbols ESOC002 to EWLM_XBEE]

## ESOC002
designator J?
SCDA2A0201 -- CONN SD/MMC REV ALPS
footprint ESOC002 (Footprint not found)
pins: 1 CS/DAT3 (io), 2 DI/CMD (in), 3 VSS (power), 4 VDD (power), 5 SCLK (in), 6 VSS (power), 7 DO/DAT0 (io), 8 DAT1/IRQ (io), 9 DAT2 (io), 10 WP (out) "Write Protect", 11 CD (out) "Card Detect", G1 GND (power), G2 GND (power)

## ESOC003
designator J?
ST1W008S4AR1500 -- CONN MICRO SD JAE
footprint ESOC003 (Footprint not found)
pins: 1 DAT2 (io), 2 CS/DAT3 (io), 3 DI/CMD (in), 4 VDD (power), 5 SCLK (in), 6 VSS (power), 7 DO/DAT0 (io), 8 DAT1 (io), G1 GND (power), G2 GND (power), G3 GND (power), G4 GND (power)

## ESOC004
designator J?
54819-0572 -- USB Mini-B Recept
footprint ESOC004 (Footprint not found)
pins: 1 GND (power), 2 ID (in), 3 D+ (io), 4 D- (io), 5 VBUS (power), G1 GND (power), G2 GND (power), G3 GND (power), G4 GND (power)

## ESOC006
designator J?
DF23C-10DS-0.5V -- LCD 6100 SOCKET
pins: 1 VDIG (power), 2 RST (in), 3 SDAT (in), 4 SCLK (in), 5 ~{CS} (in), 6 VDISPLAY (power), 7 NC, 8 GND (power), 9 LED- (power), 10 LED+ (power)
text: BETA VERSION, USE CAREFULLY

## ESOC007
designator J?
CCM05-5777LFT T50 -- CON SMART CARD SD/MMC 9PIN
footprint ESOC007 (Footprint not found)
footprint ESOC007 (Footprint not found)
pins: 1 CS/DAT3 (io), 2 DI/CMD (in), 3 VSS (power), 4 VDD (power), 5 SCLK (in), 6 VSS (power), 7 DO/DAT0 (io), 8 DAT1/IRQ (io), 9 DAT2 (io), 10 WP (out) "Write Protect", 11 CD (out) "Card Detect", G1 GND (power), G2 GND (power), G3 GND (power), G4 GND (power)

## ESOC010
designator J?
CYSD801 -- TRANSFLASH CARD CONNECTOR
footprint ESOC010 (Footprint not found)
pins: 1 DAT2 (io), 2 CS/DAT3 (io), 3 DI/CMD (in), 4 VDD (power), 5 SCLK (in), 6 VSS (power), 7 DO/DAT0 (io), 8 DAT1 (io), G1 GND (power), G2 GND (power), G3 GND (power), G4 GND (power)

## ESOC012
designator J?
DF18C-20DP-0.4V -- E700 CAM SOCKET
pins: 1 EN (in), 2 ~{RST} (in), 3 GND (power), 4 VCC (power), 5 SCL (io), 6 SDA (io), 7 VSYNC (out), 8 HSYNC (out), 9 PCLK (out), 10 CLK_IN (in), 11 GND (power), 12 VCC (power), 13 Y7 (out), 14 Y6 (out), 15 Y5 (out), 16 Y4 (out), 17 Y3 (out), 18 Y2 (out), 19 Y1 (out), 20 Y0 (out)
text: BETA VERSION, USE CAREFULLY

## ESOC013
designator P?
TRJ0011GBNL -- CONN RJ45  W/MAGNETIC AND LEDS
pins: 1 TD+, 2 TD-, 3 RD+, 4 CT, 5 CT, 6 RD-, 8 CHS GND, 9, 10, 11, 12, G1 CHS, G2 CHS
text: CABLE SIDE; 75; 4,5; GND; 7,8; 1nF; GRN LEFT; YEL RIGHT

## ESOC014
designator J?
AXK740145 -- GLCD WITH TOUCH SCREEN SOCKET
footprint ESOC014 (AXK740145 -- GLCD WITH TOUCH SCREEN SOCKET)
pins: 1 LED+ (power), 2 LED+ (power), 3 LED- (power), 4 LED- (power), 5 GND (power), 6 VCC (power), 7 VCC1 (power), 8 IOVCC (power), 9 GND (power), 10 GND (power), 11 GND (power), 12 GND (power), 13 GND (power), 14 GND (power), 15 CS (in), 16 RS (in), 17 WR (in), 18 RD (in), 19 DB0 (in), 20 DB1 (in), 21 DB2 (in), 22 DB3 (in), 23 DB4 (in), 24 DB5 (in), 25 DB6 (in), 26 DB7 (in), 27 DB8 (in), 28 DB9 (in), 29 DB10 (in), 30 DB11 (in), 31 DB12 (in), 32 DB13 (in), 33 DB14 (in), 34 DB15 (in), 35 RESET (in), 36 GND, 37 YU, 38 XL, 39 YD, 40 XR

## ESOC016
designator J?
CYSD570 -- SD/MMC CARD CONNECTOR
pins: 1 CS/DAT3 (io), 2 DI/CMD (in), 3 VSS (power), 4 VDD (power), 5 SCLK (in), 6 VSS (power), 7 DO/DAT0 (io), 8 DAT1/IRQ (io), 9 DAT2 (io), 10 WP (out) "Write Protect", 11 CD (out) "Card Detect", G1 GND (power), G2 GND (power)

## EWLM_XBEE
designator U?
Xbee/Xbee PRO Module
pins: 1 VCC (power), 2 DOUT (out), 3 DIN/~{CFG} (in), 4 DIO12 (io), 5 ~{RESET} (in), 6 PWM0/RSSI/DIO10 (io), 7 PWM/DIO11 (io), 8, 9 ~{DTR}/SLEEP_RQ/DIO8 (io), 10 GND (power), 11 DIO4, 12 ~{CTS}/DIO7 (io), 13 ON/S~{LEEP}/DIO9 (out), 14 VREF (in), 15 ASSOCIATE/DIO5 (io), 16 ~{RTS}/DIO6 (io), 17 AD3/DIO3 (io), 18 AD2/DIO2 (io), 19 AD1/DIO1 (io), 20 AD0/DIO0/COMM (io)